# Altium schematic symbol library USBtoRS485.SchLib: 8 symbols
Pins are listed as number, name and electrical type; pins without a type are passive.

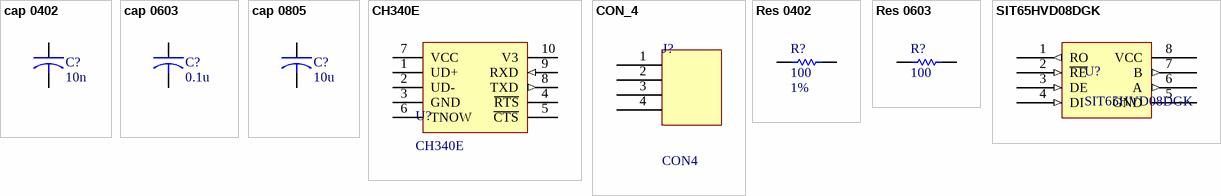
[diagram p0: symbols cap 0402 to SIT65HVD08DGK]

## cap 0402
designator C?, comment 10n
C0402
footprint C0402 (Footprint not found)
pins: 1, 2

## cap 0603
designator C?, comment 0.1u
C0603
footprint C0603 (Footprint not found)
pins: 1, 2

## cap 0805
designator C?, comment 10u
C0805
footprint C0805 (Footprint not found)
pins: 1, 2

## CH340E
designator U?
footprint MSOP10
pins: 1 UD+, 2 UD-, 3 GND, 4 ~{RTS}, 5 ~{CTS}, 6 TNOW, 7 VCC, 8 TXD (out), 9 RXD (in), 10 V3

## CON_4
designator J?, comment CON4
footprint PH4
pins: 1, 2 "VS+", 3, 4

## Res 0402
designator R?, comment 100  Rang: 1%
Resistor; Revision: July-2002: Re-released for DXP Platform.
footprint AXIAL-0.3 (Resistor; 2 Leads)
footprint R0402
pins: 1, 2
1 alternate drawing of the same symbol

## Res 0603
designator R?, comment 100
Resistor; Rang: 1%; Revision: July-2002: Re-released for DXP Platform.
footprint AXIAL-0.3 (Resistor; 2 Leads)
footprint R0603 (Footprint not found)
pins: 1, 2
1 alternate drawing of the same symbol

## SIT65HVD08DGK
designator U?
/ 10Mbps RS422, RS485 Transceiver MSOP-8 RS-485/RS-422 ICs ROHS /
footprint MSOP8
pins: 1 RO (out), 2 ~{RE} (in), 3 DE (in), 4 DI (in), 5 GND (power), 6 A (out), 7 B (out), 8 VCC (power)